# EAGLE library part S12B-PUDSS-1 (library con-jst-pud)
JST connector, PUD series, 2.0mm spacing, crimp style, wire-to-board, 12 pin, side entry
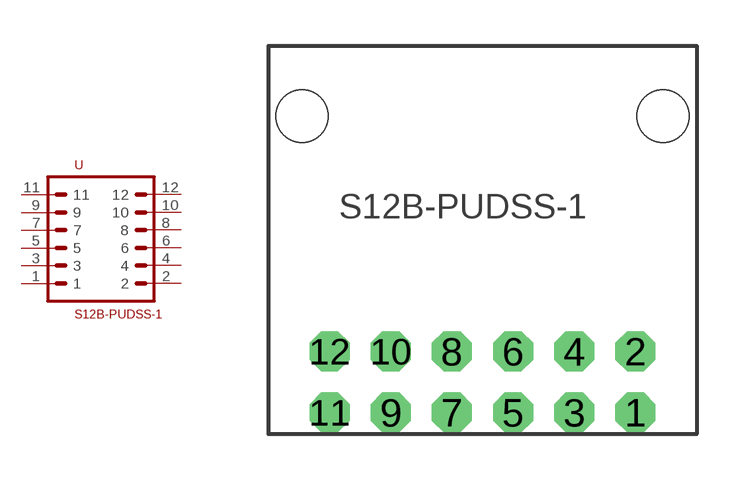
[diagram p2: symbol with the pads of PUD_12_PIN_SIDE_ENTRY; footprint PUD_12_PIN_SIDE_ENTRY]

Designator prefix -

## S12B-PUDSS-1 (DIGIKEY: 455-2487-ND; MF: JST; MPN: S12B-PUDSS-1)  [PUD_12_PIN_SIDE_ENTRY]
1  1
2  2
3  3
4  4
5  5
6  6
7  7
8  8
9  9
10  10
11  11
12  12

## Footprint PUD_12_PIN_SIDE_ENTRY (pad centres in mm)
drill 0.8 octagon: 1 5,-6; 2 5,-4; 3 3,-6; 4 3,-4; 5 1,-6; 6 1,-4; 7 -1,-6; 8 -1,-4; 9 -3,-6; 10 -3,-4; 11 -5,-6; 12 -5,-4
hole 1.7 at 5.9,3.7
hole 1.7 at -5.9,3.7